# EAGLE library part СНП15-48 (library alf_cartridge_slot)
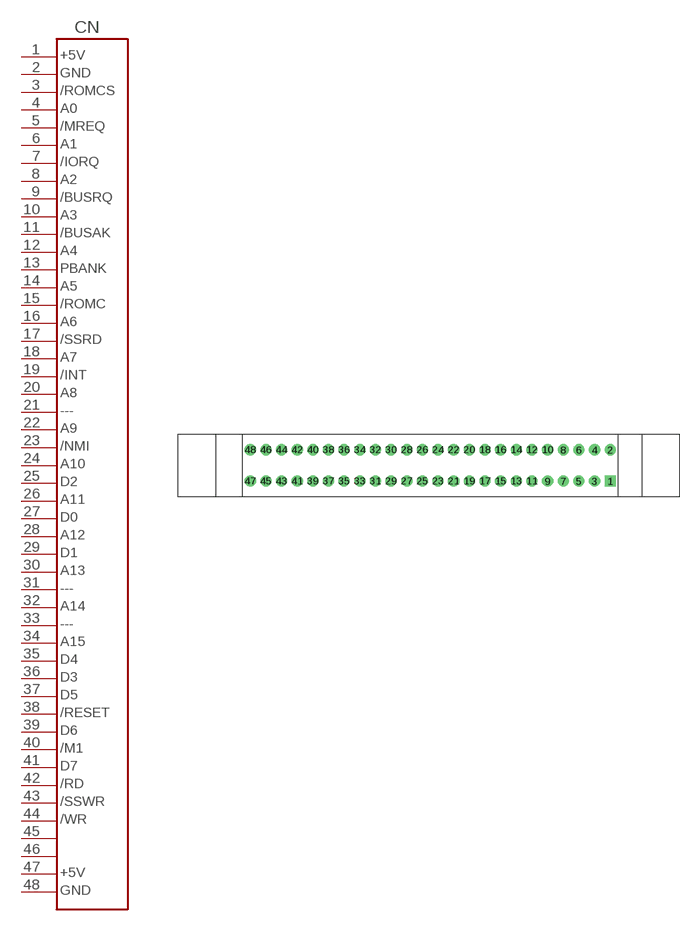
[diagram p0: symbol with the pads of СНП15-48; footprint СНП15-48]

Designator prefix CN

## СНП15-48  [СНП15-48]
1  1
2  2
3  3
4  4
5  5
6  6
7  7
8  8
9  9
10  10
11  11
12  12
13  13
14  14
15  15
16  16
17  17
18  18
19  19
20  20
21  21
22  22
23  23
24  24
25  25
26  26
27  27
28  28
29  29
30  30
31  31
32  32
33  33
34  34
35  35
36  36
37  37
38  38
39  39
40  40
41  41
42  42
43  43
44  44
45  45
46  46
47  47
48  48

## Footprint СНП15-48 (pad centres in mm)
drill 1 pad 1.778 square: 1 29,-2.5
drill 1 pad 1.778: 2 29,2.5; 3 26.5,-2.5; 4 26.5,2.5; 5 24,-2.5; 6 24,2.5; 7 21.5,-2.5; 8 21.5,2.5; 9 19,-2.5; 10 19,2.5; 11 16.5,-2.5; 12 16.5,2.5; 13 14,-2.5; 14 14,2.5; 15 11.5,-2.5; 16 11.5,2.5; 17 9,-2.5; 18 9,2.5; 19 6.5,-2.5; 20 6.5,2.5; 21 4,-2.5; 22 4,2.5; 23 1.5,-2.5; 24 1.5,2.5; 25 -1,-2.5; 26 -1,2.5; 27 -3.5,-2.5; 28 -3.5,2.5; 29 -6,-2.5; 30 -6,2.5; 31 -8.5,-2.5; 32 -8.5,2.5; 33 -11,-2.5; 34 -11,2.5; 35 -13.5,-2.5; 36 -13.5,2.5; 37 -16,-2.5; 38 -16,2.5; 39 -18.5,-2.5; 40 -18.5,2.5; 41 -21,-2.5; 42 -21,2.5; 43 -23.5,-2.5; 44 -23.5,2.5; 45 -26,-2.5; 46 -26,2.5; 47 -28.5,-2.5; 48 -28.5,2.5